# EAGLE library part ACS722 (library MRDT-PowerICs)
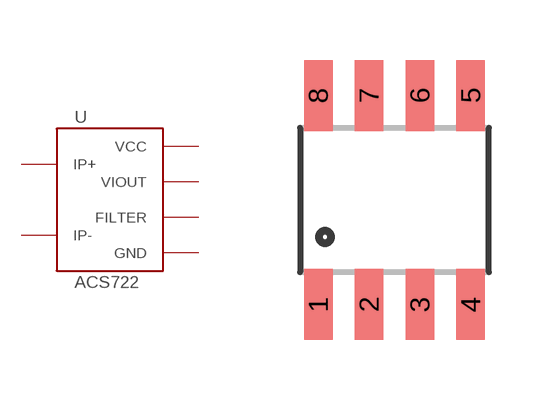
[diagram p1: symbol with the pads of SO-08; footprint SO-08]

Designator prefix -

## ACS722  [SO-08]
1  IP+
2  IP+
3  IP-
4  IP-
5  GND
6  FILTER
7  VIOUT
8  VCC

## Footprint SO-08 (pad centres in mm)
smd 0.711 x 1.778: 1 0.457,-0.813; 2 1.727,-0.813; 3 2.997,-0.813; 4 4.267,-0.813; 5 4.267,4.419; 6 2.997,4.419; 7 1.727,4.419; 8 0.457,4.419